# Altium footprint library L13.PcbLib: 4 footprints
Each footprint in its own frame and in the unit in brackets; x right, y up, seen from the top. Pads: shape width x height; smd on the part's side, far side on the other; paste and mask are expansions set on the pad; w line width, h text height; cw(c..) or ccw(c..) is an arc to the next point about the centre after c.
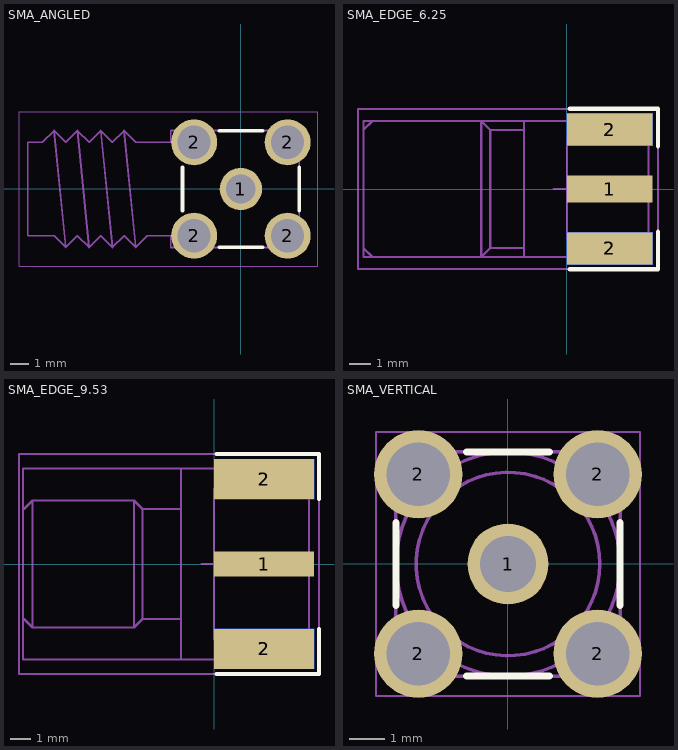
[diagram p0: the footprints below, top view; thin cyan lines are the x and y axes]

## SMA_ANGLED [mm]
pads (5):
  round 2.3 hole 1.6: 1(0,0)
  round 2.5 hole 1.8: 2(-2.54,-2.54) 2(-2.54,2.54) 2(2.54,-2.54) 2(2.54,2.54)
Top Overlay:
  lines w0.2: -3.175,-1.181 -3.175,1.181 ; -1.181,-3.175 1.181,-3.175 ; -1.181,3.175 1.181,3.175 ; 3.175,-1.181 3.175,1.181
Mechanical 13:
  lines w0.1: -11.591,-2.54 -11.591,2.54 -10.795,2.54 -10.16,3.175 ; -11.557,-2.54 -10.16,-2.54 -9.525,-3.175 ; -3.04,-2.97 -3.04,-2.04 -2.04,-2.04 -2.04,-3.04 -2.97,-3.04 ; -3.04,2.97 -3.04,2.04 -2.04,2.04 -2.04,3.04 -2.97,3.04 ; 2.794,-3.175 -3.81,-3.175 -3.81,-2.54 -5.08,-2.54 -5.715,-3.175 ; 2.794,3.175 -3.81,3.175 -3.81,2.54 -5.715,2.54 -6.35,3.175 ; 2.808,-3.191 ccw(c0,0) 3.191,-2.808 ; 2.808,3.19 cw(c0,0) 3.191,2.808 ; 2.97,3.04 2.04,3.04 2.04,2.04 3.04,2.04 3.04,2.97 ; 2.97,-3.04 2.04,-3.04 2.04,-2.04 3.04,-2.04 3.04,-2.97 ; 3.175,-2.794 3.175,2.794 ; -10.16,3.175 -9.525,-3.175 ; -10.16,3.175 -9.525,2.54 -8.89,3.175 ; -9.525,-3.175 -8.89,-2.54 -8.255,-3.175 ; -8.89,3.175 -8.255,-3.175 ; -8.89,3.175 -8.255,2.54 -7.62,3.175 ; -8.255,-3.175 -7.62,-2.54 -6.985,-3.175 ; -7.62,3.175 -6.985,-3.175 ; -7.62,3.175 -6.985,2.54 -6.35,3.175 ; -6.985,-3.175 -6.35,-2.54 -5.715,-3.175 ; -6.35,3.175 -5.715,-3.175
Mechanical 15:
  lines w0.05: -12.065,-4.191 4.191,-4.191 4.191,4.191 -12.065,4.191 -12.065,-4.191
  lines w0.1: -0.635,0 0.635,0 ; 0,-0.635 0,0.635
Mechanical 17:
  text "'.Designator'" at -4.191,-0.635 h0.64
Mechanical 19:
  text "'.Comment'" at -3.302,0 h0.64
3D body "731000114.stp": height 9.67, standoff -3.83, extent -11.591,-3.175 3.209,3.175

## SMA_EDGE_6.25 [mm]
pads (5):
  rect 4x1.27 smd paste-5: 1(2,0)
  rect 4x1.5 smd paste-5: 2(2,-2.775) 2(2,2.775)
  rect 4x1.5 smd far side paste-5: 2(2,-2.775) 2(2,2.775)
Top Overlay:
  lines w0.2: 0.125,-3.75 4.25,-3.75 4.25,-2 ; 0.125,3.75 4.25,3.75 4.25,2
Mechanical 13:
  lines w0.1: -9.5,-2.75 -9.075,-3.175 ; -9.5,2.75 -9.075,3.175 ; -2.794,-3.175 2.794,-3.175 ; -2.794,3.175 2.794,3.175 ; -2,-3.175 -2,3.175 ; -2,-2.75 -3.575,-2.75 ; -2,2.75 -3.575,2.75 ; 3.8,-2.375 0,-2.375 0,-0.4 ; 3.8,-0.4 0,-0.4 ; 3.8,0.4 0,0.4 ; 3.8,2.375 0,2.375 0,0.4 ; -3.575,-2.75 -3.575,2.75 ; -3.575,-2.75 -4,-3.175 -4,3.175 -3.575,2.75 ; 0,-0.4 0,0.4 ; -9.5,-3.175 3.8,-3.175 3.8,3.175 -9.5,3.175 -9.5,-3.175
Mechanical 15:
  lines w0.1: -0.635,0 0.635,0 ; 0,-0.635 0,0.635 ; -9.75,-3.74 -9.75,3.74 4.25,3.74 4.25,-3.74 -9.75,-3.74
3D body "User Library-620-SMA-02-112-TGG SMA Female for PCB edge Mount.step": height 3.5, standoff -2.55, extent -9.6,-3 4,3

## SMA_EDGE_9.53 [mm]
pads (5):
  rect 5x1.27 smd paste-5: 1(2.5,0)
  rect 5x2 smd paste-5: 2(2.5,-4.25) 2(2.5,4.25)
  rect 5x2 smd far side paste-5: 2(2.5,-4.25) 2(2.5,4.25)
Top Overlay:
  lines w0.2: 0.125,-5.5 5.25,-5.5 5.25,-3.25 ; 0.125,5.5 5.25,5.5 5.25,3.25
Mechanical 13:
  lines w0.1: -9.5,-2.75 -9.075,-3.175 ; -9.5,2.75 -9.075,3.175 ; -1.65,-4.775 -1.65,4.775 ; -1.65,-2.75 -3.575,-2.75 ; -1.65,2.75 -3.575,2.75 ; 4.75,-3.75 0,-3.75 0,-0.4 ; 4.75,-0.4 0,-0.4 ; 4.75,0.4 0,0.4 ; 4.75,3.75 2.425,3.75 0,3.75 0,0.4 ; -9.075,-3.175 -9.075,3.175 ; -9.075,-3.175 -4,-3.175 ; -9.075,3.175 -4,3.175 ; -4,-3.175 -3.575,-2.75 ; -4,-3.175 -4,3.175 ; -4,3.175 -3.575,2.75 ; -3.575,-2.75 -3.575,2.75 ; 0,-0.4 0,0.4 ; -9.55,-4.775 -9.55,4.775 4.75,4.775 4.75,-4.775 -9.55,-4.775
Mechanical 15:
  lines w0.1: -0.635,0 0.635,0 ; 0,-0.635 0,0.635 ; -9.75,-5.5 5.25,-5.5 5.25,5.5 -9.75,5.5 -9.75,-5.5
3D body "User Library-73251-1150-SMA.step": height 4.5, standoff -3.43, extent -9.53,-4.765 4.75,4.765

## SMA_VERTICAL [mm]
pads (5):
  round 2.3 hole 1.6: 1(0,0)
  round 2.5 hole 1.8: 2(-2.54,-2.54) 2(-2.54,2.54) 2(2.54,-2.54) 2(2.54,2.54)
Top Overlay:
  lines w0.2: -3.175,-1.181 -3.175,1.181 ; -1.181,-3.175 1.181,-3.175 ; -1.181,3.175 1.181,3.175 ; 3.175,-1.181 3.175,1.181
Mechanical 13:
  circle w0.1: c0,0 r0.635
  circle w0.1: c0,0 r2.6
  circle w0.1: c0,0 r3.175
  lines w0.1: -3.19,-2.808 ccw(c0,0) -2.808,-3.191 ; -3.19,2.808 cw(c0,0) -2.808,3.19 ; -3.175,-2.794 -3.175,2.794 ; -3.04,-2.97 -3.04,-2.04 -2.04,-2.04 -2.04,-3.04 -2.97,-3.04 ; -3.04,2.97 -3.04,2.04 -2.04,2.04 -2.04,3.04 -2.97,3.04 ; -2.794,-3.175 2.794,-3.175 ; -2.794,3.175 2.794,3.175 ; -0.1,-0.627 -0.1,0.627 ; 0.1,-0.627 0.1,0.627 ; 2.808,-3.191 ccw(c0,0) 3.191,-2.808 ; 2.808,3.19 cw(c0,0) 3.191,2.808 ; 2.97,3.04 2.04,3.04 2.04,2.04 3.04,2.04 3.04,2.97 ; 2.97,-3.04 2.04,-3.04 2.04,-2.04 3.04,-2.04 3.04,-2.97 ; 3.175,-2.794 3.175,2.794
Mechanical 15:
  lines w0.05: -3.74,-3.74 3.74,-3.74 3.74,3.74 -3.74,3.74 -3.74,-3.74
  lines w0.1: -0.635,0 0.635,0 ; 0,-0.635 0,0.635
3D body "32k101-400l5.stp": height 9.5, standoff -4, extent -3.175,-3.175 3.175,3.175